# Altium footprint library Inductor.PcbLib: 26 footprints (part 1 of 2)
Each footprint in its own frame and in the unit in brackets; x right, y up, seen from the top. Pads: shape width x height; smd on the part's side, far side on the other; paste and mask are expansions set on the pad; w line width, h text height; cw(c..) or ccw(c..) is an arc to the next point about the centre after c.
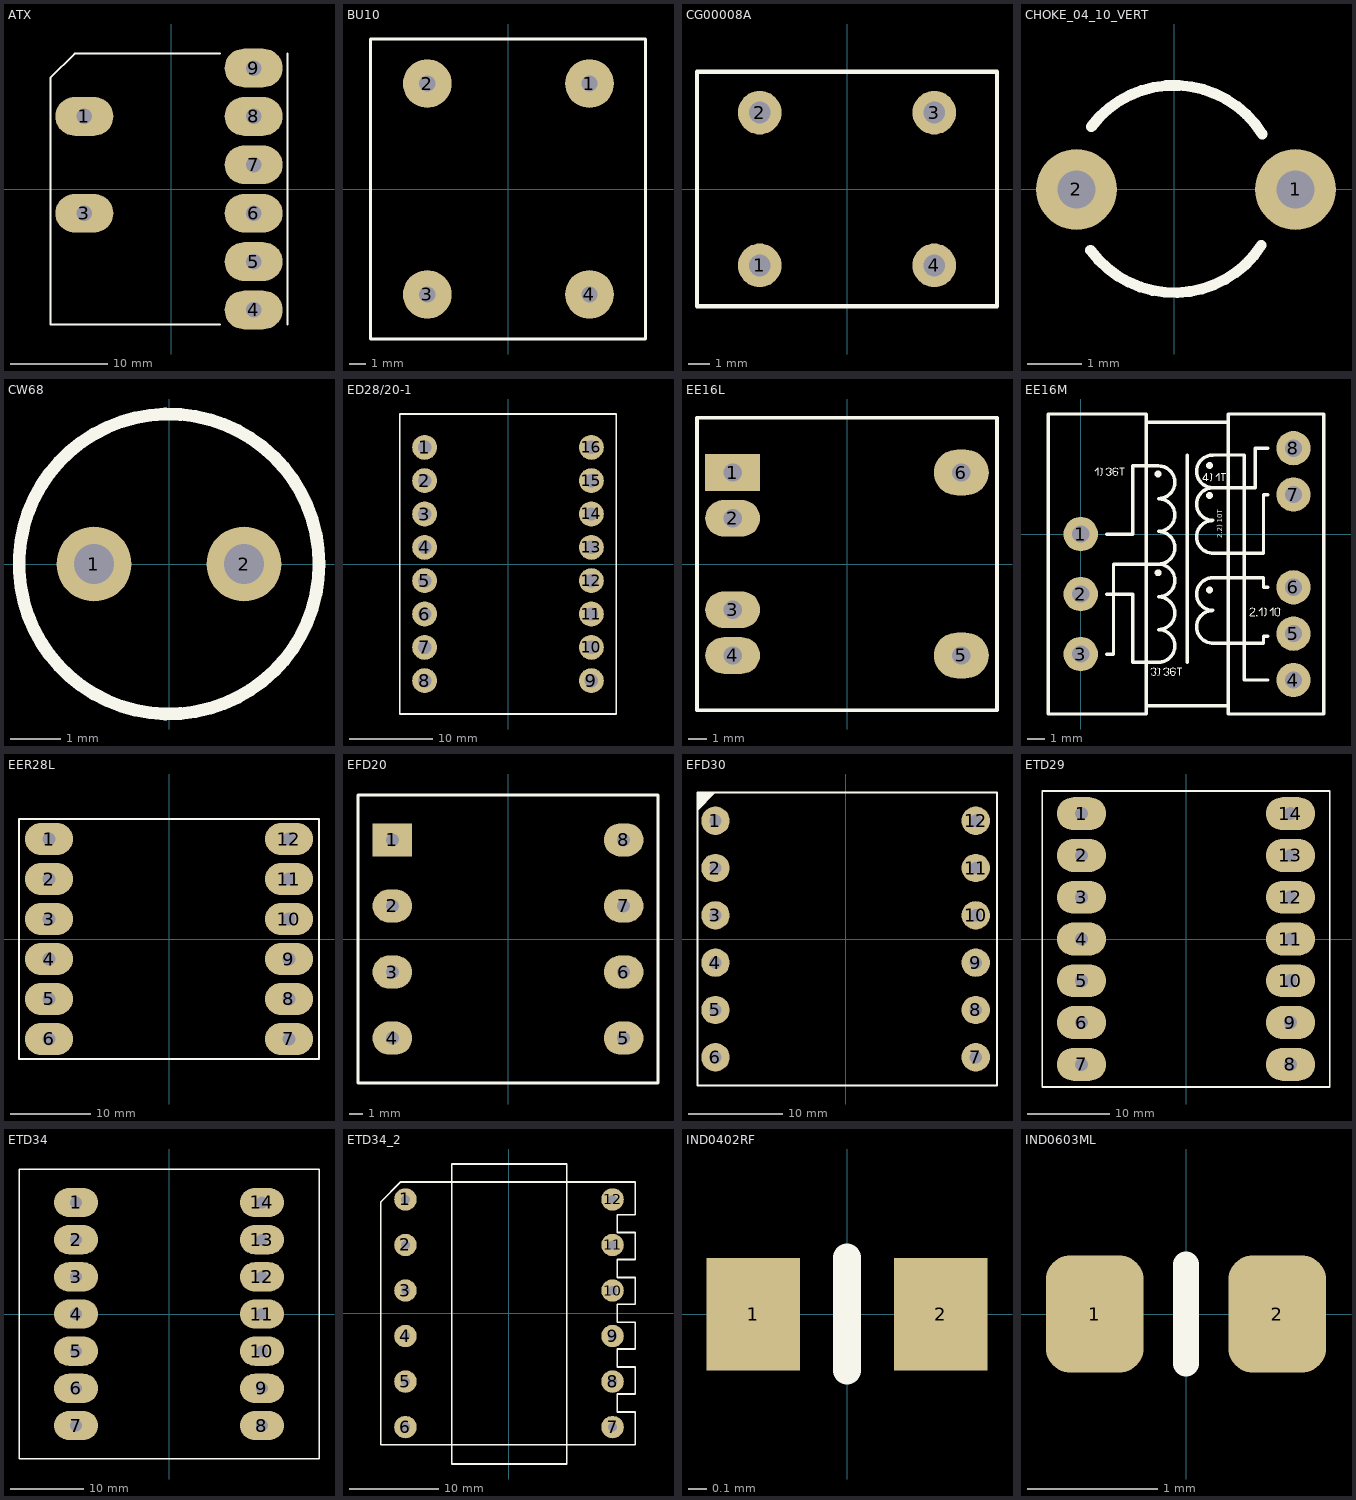
[diagram p0: the footprints below, top view; thin cyan lines are the x and y axes]

## ATX [mm]
pads (8):
  oval 6x4 hole 1.6: 1(-9,7.5) 3(-9,-2.5) 4(8.5,-12.5) 5(8.5,-7.5) 6(8.5,-2.5) 7(8.5,2.5) 8(8.5,7.5) 9(8.5,12.5)
Top Overlay:
  lines w0.2: 5,-14 -12.5,-14 -12.5,11.5 -10,14 5,14 ; 12,-14 12,14

## BU10 [mm]
pads (4):
  round 3 hole 1: 1(5,6.5) 2(-5,6.5) 3(-5,-6.5) 4(5,-6.5)
Top Overlay:
  lines w0.2: -8.5,-9.25 8.45,-9.25 8.45,9.25 -8.5,9.25 -8.5,-9.25
3D body "Coilcraft-BU10.step": height 22.51, standoff -4.49, extent -8.05,-9.47 8.05,9.47

## CG00008A [mm]
pads (4):
  round 2 hole 1: 1(-4,-3.5) 2(-4,3.5) 3(4,3.5) 4(4,-3.5)
Top Overlay:
  lines w0.2: -6.875,-5.375 6.875,-5.375 6.875,5.375 -6.875,5.375 -6.875,-5.375
3D body "CG00008A.STEP": height 15.46, standoff -2.99, extent -7.781,-5.425 7.782,5.425

## CHOKE_04_10_VERT [mm]
pads (2):
  round 1.5 hole 0.7 unplated: 1(2.25,-0.008) 2(-1.814,-0.008)
Top Overlay:
  lines w0.2: -1.551,-1.138 ccw(c0,0) 1.615,-1.045 ; -1.539,1.154 cw(c0,0) 1.631,1.019
3D body "Choke_04_10_VERT.STEP": height 11, standoff -3, extent -2.064,-1.991 2.498,1.991

## CW68 [mm]
pads (2):
  round 1.5 hole 0.8: 1(-1.5,0) 2(1.5,0)
Top Overlay:
  circle w0.254: c0,0 r3
3D body "User Library-CW68.step": height 10.25, standoff -0.75, extent -3.1,-3.1 3.1,3.1

## ED28/20-1 [mm]
pads (16):
  round 3 hole 1.6: 1(-10,14) 2(-10,10) 3(-10,6) 4(-10,2) 5(-10,-2) 6(-10,-6) 7(-10,-10) 8(-10,-14) 9(10,-14) 10(10,-10) 11(10,-6) 12(10,-2) 13(10,2) 14(10,6) 15(10,10) 16(10,14)
Top Overlay:
  lines w0.2: -13,-18 -13,18 13,18 13,-18 -13,-18

## EE16L [mm]
pads (6):
  rect 3x2 hole 1: 1(-6.25,5)
  oval 3x2 hole 1: 2(-6.25,2.5) 3(-6.25,-2.5) 4(-6.25,-5)
  oval 3x2.5 hole 1: 5(6.25,-5) 6(6.25,5)
Top Overlay:
  lines w0.2: -8.2,-8 -8.2,8 8.2,8 8.2,-8 -8.2,-8
3D body "ee-16l.STEP": height 13.51, standoff -3.49, extent -8,-8 8,8

## EE16M [mm]
pads (8):
  round 2 hole 1 mask+0.3: 1(0,0) 2(0,-3.492) 3(0,-6.985) 4(12.383,-8.493) 5(12.383,-5.794) 6(12.383,-3.096) 7(12.383,2.302) 8(12.383,5.001)
Top Overlay:
  drawing of 689 lines, arcs and shapes, not listed
  text "2.2) 10T" at 8.25,-0.25 h0.3

## EER28L [mm]
pads (12):
  oval 6x4 hole 1.6: 1(-15,12.5) 2(-15,7.5) 3(-15,2.5) 4(-15,-2.5) 5(-15,-7.5) 6(-15,-12.5) 7(15,-12.5) 8(15,-7.5) 9(15,-2.5) 10(15,2.5) 11(15,7.5) 12(15,12.5)
Top Overlay:
  lines w0.2: -18.75,-15 -18.75,15 18.75,15 18.75,-15 -18.75,-15

## EFD20 [mm]
pads (8):
  rect 3x2.5 hole 1: 1(-8.75,7.5)
  oval 3x2.5 hole 1: 2(-8.75,2.5) 3(-8.75,-2.5) 4(-8.75,-7.5) 5(8.75,-7.5) 6(8.75,-2.5) 7(8.75,2.5) 8(8.75,7.5)
Top Overlay:
  lines w0.2: -11.35,-10.9 11.35,-10.9 11.35,10.9 -11.35,10.9 -11.35,-10.9
3D body "User Library-EFD20-1.step": height 10.41, standoff -3.49, extent -11.331,-10.9 11.332,10.9

## EFD30 [mm]
pads (12):
  round 3 hole 1.3: 1(-13.75,12.5) 2(-13.75,7.5) 3(-13.75,2.5) 4(-13.75,-2.5) 5(-13.75,-7.5) 6(-13.75,-12.5) 7(13.75,-12.5) 8(13.75,-7.5) 9(13.75,-2.5) 10(13.75,2.5) 11(13.75,7.5) 12(13.75,12.5)
Top Overlay:
  region: -15.7,15.5 -15.7,13.5 -13.7,15.5
  lines w0.2: -15.65,-15.5 16,-15.5 16,15.5 -15.65,15.5 -15.65,-15.5
3D body "EFD30-1.STEP": height 12.51, standoff -3.59, extent -17,-15.6 17,15.6

## ETD29 [mm]
pads (14):
  oval 6x4 hole 1.6: 1(-12.7,15.24) 2(-12.7,10.16) 3(-12.7,5.08) 4(-12.7,0) 5(-12.7,-5.08) 6(-12.7,-10.16) 7(-12.7,-15.24) 8(12.7,-15.24) 9(12.7,-10.16) 10(12.7,-5.08) 11(12.7,0) 12(12.7,5.08) 13(12.7,10.16) 14(12.7,15.24)
Top Overlay:
  lines w0.2: -17.5,-18 -17.5,18 17.5,18 17.5,-18 -17.5,-18
3D body "ETD29 Tranformer Assembly.STEP": height 24.72, standoff -3.39, extent -17.5,-17.6 17.5,17.6

## ETD34 [mm]
pads (14):
  oval 6x4 hole 1.6: 1(-12.7,15.24) 2(-12.7,10.16) 3(-12.7,5.08) 4(-12.7,0) 5(-12.7,-5.08) 6(-12.7,-10.16) 7(-12.7,-15.24) 8(12.7,-15.24) 9(12.7,-10.16) 10(12.7,-5.08) 11(12.7,0) 12(12.7,5.08) 13(12.7,10.16) 14(12.7,15.24)
Top Overlay:
  lines w0.2: -20.5,-19.8 -20.5,19.8 20.5,19.8 20.5,-19.8 -20.5,-19.8
3D body "User Library-ETD34.STEP": height 32.91, standoff -2.42, extent -20.5,-19.8 20.5,19.8

## ETD34_2 [mm]
pads (12):
  round 2.5 hole 1: 1(-11.557,12.7) 2(-11.557,7.62) 3(-11.557,2.54) 4(-11.557,-2.54) 5(-11.557,-7.62) 6(-11.557,-12.7) 7(11.557,-12.7) 8(11.557,-7.62) 9(11.557,-2.54) 10(11.557,2.54) 11(11.557,7.62) 12(11.557,12.7)
Top Overlay:
  lines w0.2: -14.301,-14.66 -14.301,12.421 -12.065,14.657 14.08,14.657 14.08,10.999 12.08,10.999 12.08,8.999 14.08,8.999 14.08,5.999 12.08,5.999 12.08,3.999 14.08,3.999 14.08,0.999 12.08,0.999 12.08,-1.001 14.08,-1.001 14.08,-4.001 12.08,-4.001 12.08,-6.001 14.08,-6.001 14.08,-9.001 12.08,-9.001 12.08,-11.001 14.08,-11.001 14.08,-14.66 -14.301,-14.66 ; -6.396,-16.819 6.445,-16.819 6.445,16.657 -6.396,16.657 -6.396,-16.819
3D body: height 28.5, standoff 25, extent -14.25,-10.875 14.25,10.922
3D body: height 8.5, standoff 4, extent -14.25,-14.625 14.25,14.625
3D body: height 4, standoff 0.2, extent 6.985,-14.605 9.525,14.605
3D body: height 4, standoff 0.2, extent -9.525,-14.605 -6.985,14.605
3D body: height 6, standoff 3, extent -6.375,-16.875 6.375,16.875
3D body: height 31, standoff 3, extent -6.375,13.875 6.375,16.875
3D body: height 31, standoff 3, extent -6.375,-16.875 6.375,-13.875
3D body: height 31, standoff 28, extent -6.375,-16.875 6.375,16.875
3D body: height 31, standoff 3, extent -6.375,-5.625 6.375,5.625

## IND0402RF [mm]
pads (2):
  rect 0.5x0.6 smd: 1(-0.5,0) 2(0.5,0)
Top Overlay:
  lines w0.15: 0,-0.3 0,0.3 ; 0,-0.25 0,0.25
3D body "User Library-SLF_0402.step": height 0.67, standoff 0.01, extent -0.595,-0.32 0.595,0.32

## IND0603ML [mm] "resistor 0603 reflow soldering"
pads (2):
  rrect50% 0.75x0.9 smd: 1(-0.7,0) 2(0.7,0)
Top Overlay:
  lines w0.2: 0,-0.381 0,0.381
3D body "45630.stp": height 0.81, standoff 0.01, extent -0.8,-0.4 0.8,0.4